# Altium schematic symbol library QuadratureEncoder.SchLib: 1 symbol
Pins are listed as number, name and electrical type; pins without a type are passive.

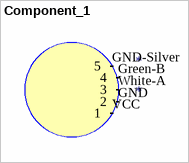
[diagram p0: symbol Component_1]

## Component_1
designator *
pins: GND 2, GND-Silver 5, Green-B 4, VCC 1, White-A 3